# EAGLE library part M95512-RMN6P (library M95512-RMN6P)
STMicroelectronics M95512-RMN6P EEPROM Memory Chip, 512kbit, 80ns, 1.8 5.5 V 8-Pin SOIC Source: Datasheet <https://www.st.com/resource/en/datasheet/m95512-w.pdf>
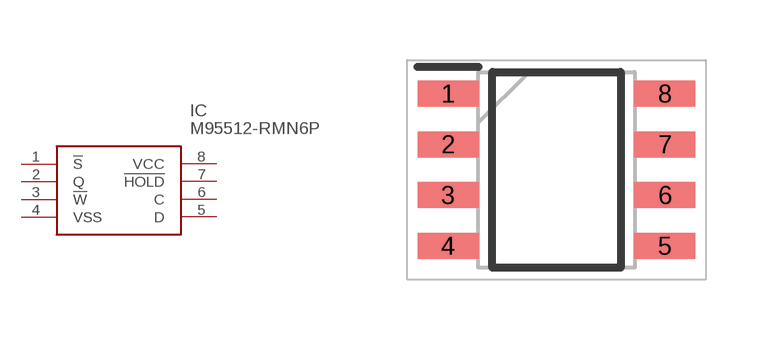
[diagram p0: symbol with the pads of SOIC127P600X175-8N; footprint SOIC127P600X175-8N]

Designator prefix IC

## M95512-RMN6P (Description: STMicroelectronics M95512-RMN6P EEPROM Memory Chip, 512kbit, 80ns, 1.8 5.5 V 8-Pin SOIC; Height: 1.75mm; Manufacturer_Name: STMicroelectronics; Manufacturer_Part_Number: M95512-RMN6P; Mouser_Part_Number: 511-M95512-RMN6P; Mouser_Price-Stock: https://www.mouser.co.uk/ProductDetail/STMicroelectronics/M95512-RMN6P?qs=jZi1jxfVU95kyrSn89F2Zg%3D%3D)  [SOIC127P600X175-8N]
1  !S
2  Q
3  !W
4  VSS
5  D
6  C
7  !HOLD
8  VCC

## Footprint SOIC127P600X175-8N (pad centres in mm)
SO8
smd 1.525 x 0.65: 1 -2.712,1.905; 2 -2.712,0.635; 3 -2.712,-0.635; 4 -2.712,-1.905; 5 2.712,-1.905; 6 2.712,-0.635; 7 2.712,0.635; 8 2.712,1.905